# Altium footprint library CX2016DB32000D0FLJCC.PcbLib: 1 footprints
Each footprint in its own frame and in the unit in brackets; x right, y up, seen from the top. Pads: shape width x height; smd on the part's side, far side on the other; paste and mask are expansions set on the pad; w line width, h text height; cw(c..) or ccw(c..) is an arc to the next point about the centre after c.
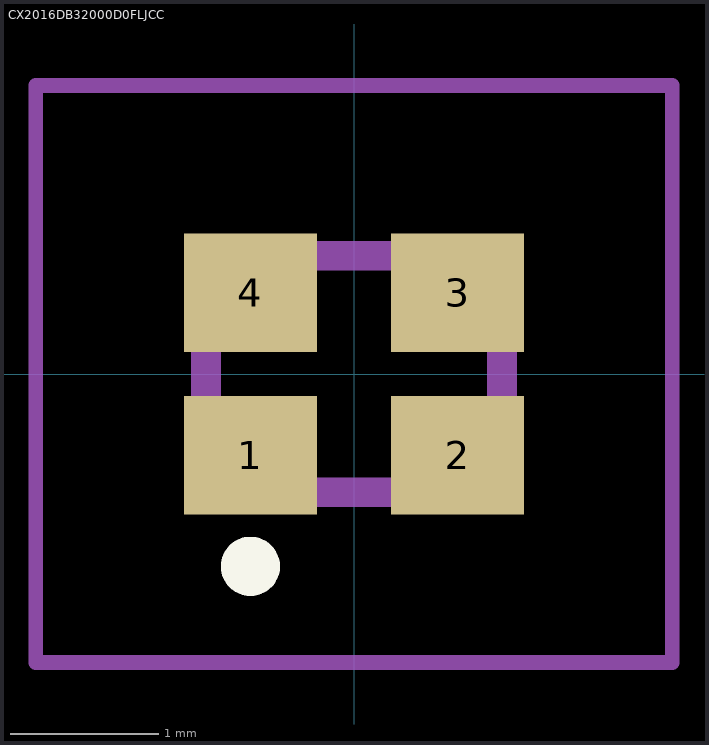
[diagram p0: the footprint, top view; thin cyan lines are the x and y axes]

## CX2016DB32000D0FLJCC [mm]
pads (4):
  rect 0.9x0.8 smd: 1(-0.7,-0.55) 2(0.7,-0.55) 3(0.7,0.55) 4(-0.7,0.55)
Top Overlay:
  lines w0.2: -0.8,-1.3 cw(c-0.7,-1.3) -0.6,-1.3 ; -0.8,-1.3 -0.8,-1.3 ; -0.8,-1.3 ccw(c-0.7,-1.3) -0.6,-1.3 ; -0.6,-1.3 -0.6,-1.3
Mechanical 15:
  lines w0.2: -1,-0.8 1,-0.8 1,0.8 -1,0.8 -1,-0.8
Mechanical 20:
  lines w0.1: -2.15,-1.95 2.15,-1.95 2.15,1.95 -2.15,1.95 -2.15,-1.95